# EAGLE library part MCP2515_DEVBOARD (library MCP2515)
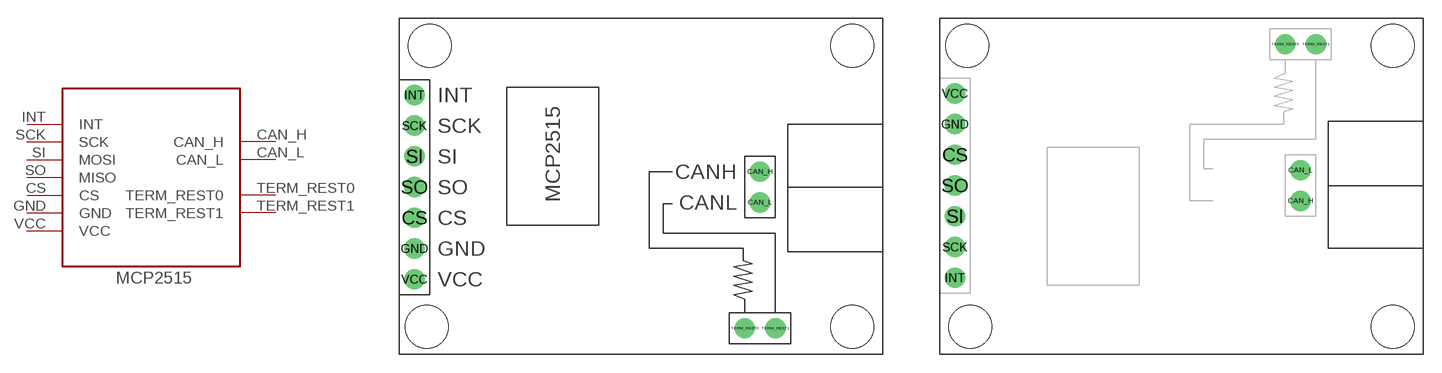
[diagram p1: symbol with the pads of MCP2515_DEVBOARD; footprints MCP2515_DEVBOARD, MCP2515_DEVBOARD_INVERTED]

Designator prefix -

## MCP2515_DEVBOARD  [MCP2515_DEVBOARD]
CAN_H  CAN_H
CAN_L  CAN_L
CS  CS  in
GND  GND
INT  INT  out
SCK  SCK  in
SI  MOSI  in
SO  MISO  out
TERM_REST0  TERM_REST0
TERM_REST1  TERM_REST1
VCC  VCC

## MCP2515_DEVBOARDINVERTED  [MCP2515_DEVBOARD_INVERTED]
Pads as for MCP2515_DEVBOARD

## Footprint MCP2515_DEVBOARD (pad centres in mm)
drill 1 pad 1.676: CAN_H 9.525,0; CAN_L 9.525,-2.54; CS -19.05,-3.81; GND -19.05,-6.35; INT -19.05,6.35; SCK -19.05,3.81; SI -19.05,1.27; SO -19.05,-1.27; TERM_REST0 8.255,-12.954; TERM_REST1 10.795,-12.954; VCC -19.05,-8.89
hole 3.556 at -17.78,10.414
hole 3.556 at 17.145,10.414
hole 3.556 at 17.145,-12.827
hole 3.556 at -18.034,-12.827

## Footprint MCP2515_DEVBOARD_INVERTED (pad centres in mm)
drill 1 pad 1.676: CAN_H 9.525,-1.27; CAN_L 9.525,1.27; CS -19.05,2.54; GND -19.05,5.08; INT -19.05,-7.62; SCK -19.05,-5.08; SI -19.05,-2.54; SO -19.05,0; TERM_REST0 8.255,11.684; TERM_REST1 10.795,11.684; VCC -19.05,7.62
hole 3.556 at -17.78,-11.684
hole 3.556 at 17.145,-11.684
hole 3.556 at 17.145,11.557
hole 3.556 at -18.034,11.557